# Altium schematic symbol library Sch_OtherConnectors.SchLib: 12 symbols
Pins are listed as number, name and electrical type; pins without a type are passive.

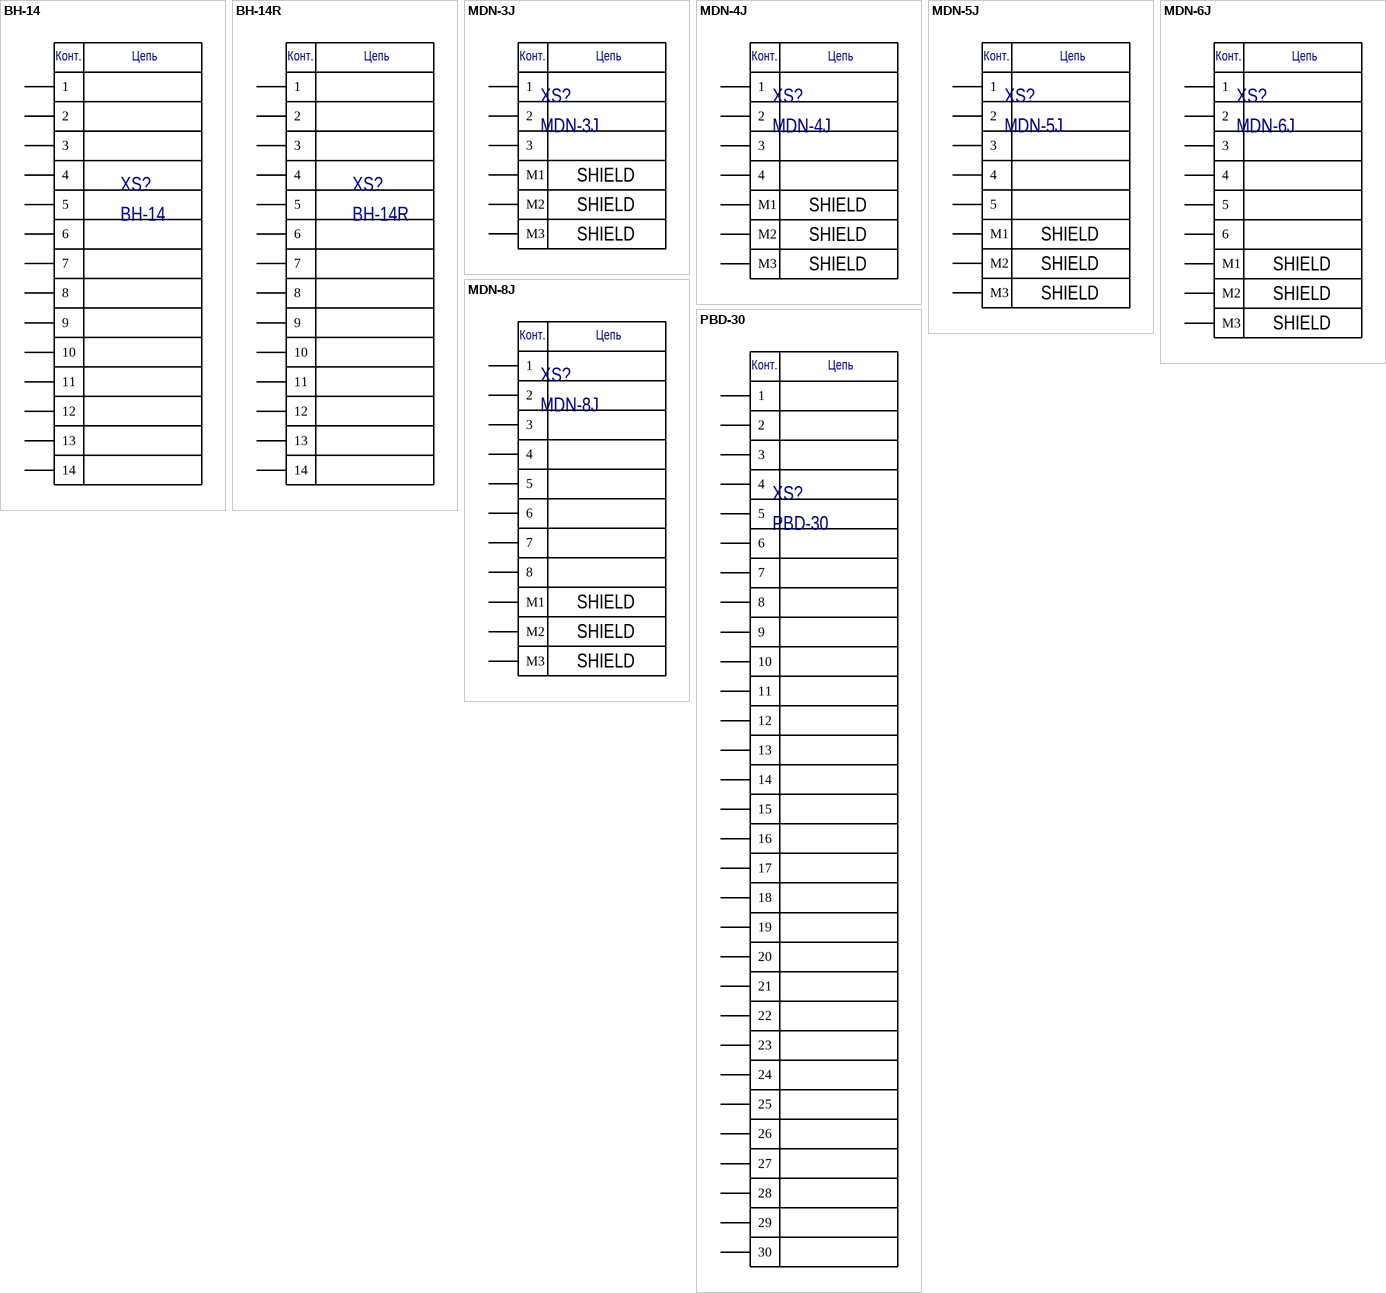
[diagram p0: symbols BH-14 to PBD-30]

## BH-14
designator XS?
Manufacturer: *; Part Number: BH-14
footprint BH-14
pins: 1, 2, 3, 4, 5, 6, 7, 8, 9, 10, 11, 12, 13, 14
text: Конт.; Цепь

## BH-14R
designator XS?
Manufacturer: *; Part Number: BH-14R
footprint BH-14R
pins: 1, 2, 3, 4, 5, 6, 7, 8, 9, 10, 11, 12, 13, 14
text: Конт.; Цепь

## MDN-3J
designator XS?
Female miniDIN connector 3 pin; Manufacturer: *; Part Number: MDN-3J
footprint MDN-3J
pins: 1, 2, 3, M1, M2, M3
text: Конт.; Цепь; SHIELD

## MDN-4J
designator XS?
Female miniDIN connector 4 pin; Manufacturer: *; Part Number: MDN-4J
footprint MDN-4J
footprint MDN-4J_v2
pins: 1, 2, 3, 4, M1, M2, M3
text: Конт.; Цепь; SHIELD

## MDN-5J
designator XS?
Female miniDIN connector 5 pin; Manufacturer: *; Part Number: MDN-5J
footprint MDN-5J
pins: 1, 2, 3, 4, 5, M1, M2, M3
text: Конт.; Цепь; SHIELD

## MDN-6J
designator XS?
Female miniDIN connector 6 pin; Manufacturer: *; Part Number: MDN-6J
footprint MDN-6J
pins: 1, 2, 3, 4, 5, 6, M1, M2, M3
text: Конт.; Цепь; SHIELD

## MDN-8J
designator XS?
Female miniDIN connector 8 pin; Manufacturer: *; Part Number: MDN-8J
footprint MDN-8J
pins: 1, 2, 3, 4, 5, 6, 7, 8, M1, M2, M3
text: Конт.; Цепь; SHIELD

## PBD-30
designator XS?
Female straight connector pitch 2.54 mm; Manufacturer: *; Part Number: PBD-30
footprint PBD-30
pins: 1, 2, 3, 4, 5, 6, 7, 8, 9, 10, 11, 12, 13, 14, 15, 16, 17, 18, 19, 20, 21, 22, 23, 24, 25, 26, 27, 28, 29, 30
text: Конт.; Цепь

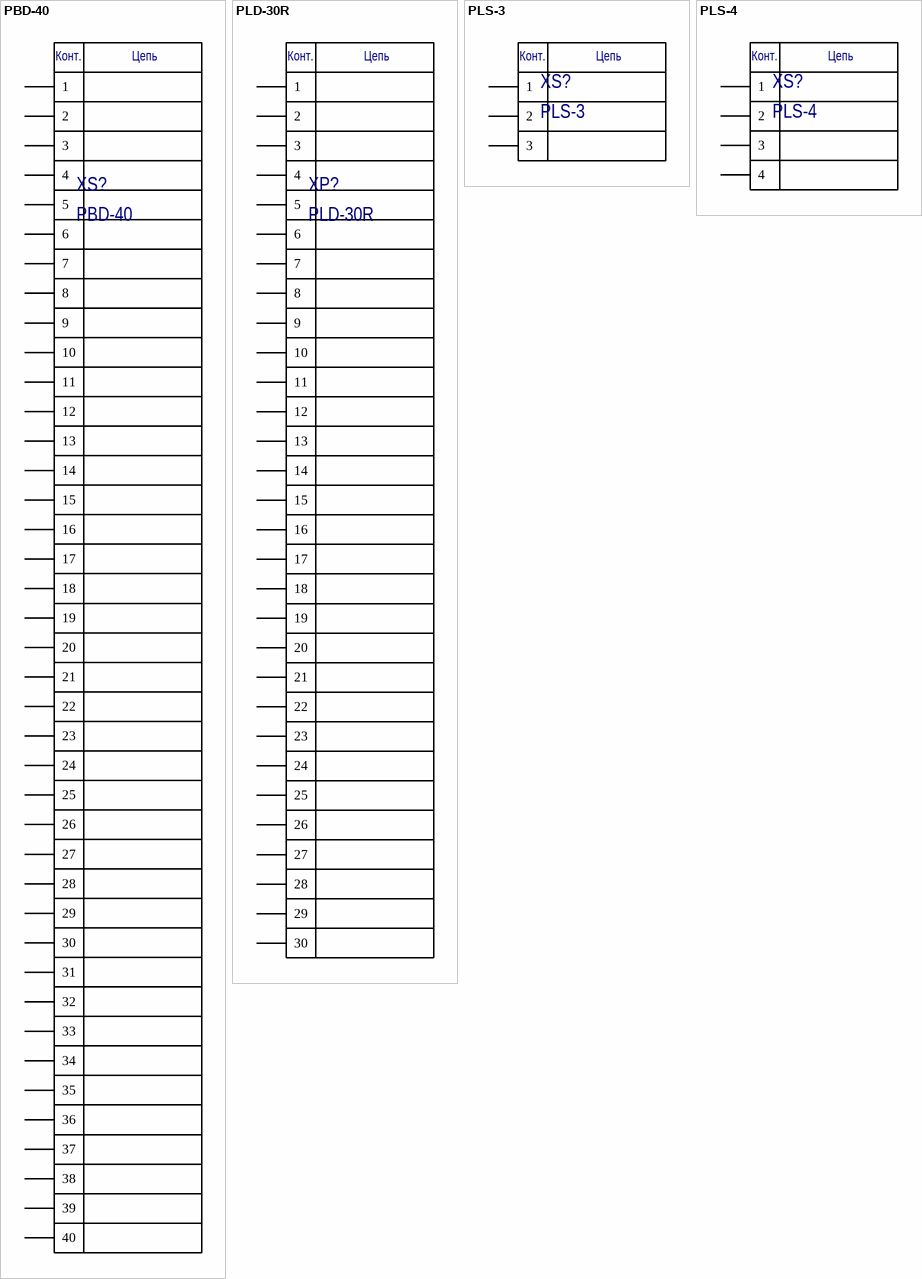
[diagram p1: symbols PBD-40 to PLS-4]

## PBD-40
designator XS?
Female straight connector pitch 2.54 mm; Manufacturer: *; Part Number: PBD-40
footprint PBD-40
pins: 1, 2, 3, 4, 5, 6, 7, 8, 9, 10, 11, 12, 13, 14, 15, 16, 17, 18, 19, 20, 21, 22, 23, 24, 25, 26, 27, 28, 29, 30, 31, 32, 33, 34, 35, 36, 37, 38, 39, 40
text: Конт.; Цепь

## PLD-30R
designator XP?
Female right connector pitch 2.54 mm; Manufacturer: *; Part Number: PLD-30R
footprint PLD-30R
pins: 1, 2, 3, 4, 5, 6, 7, 8, 9, 10, 11, 12, 13, 14, 15, 16, 17, 18, 19, 20, 21, 22, 23, 24, 25, 26, 27, 28, 29, 30
text: Конт.; Цепь

## PLS-3
designator XS?
Male straight connector pitch 2.54 mm; Manufacturer: *; Part Number: PLS-3
footprint PLS-3
pins: 1, 2, 3
text: Конт.; Цепь

## PLS-4
designator XS?
Male straight connector pitch 2.54 mm; Manufacturer: *; Part Number: PLS-4
footprint PLS-4
pins: 1, 2, 3, 4
text: Конт.; Цепь